# Altium footprint library Resistors_GP.PcbLib: 194 footprints (part 8 of 13)
Each footprint in its own frame and in the unit in brackets; x right, y up, seen from the top. Pads: shape width x height; smd on the part's side, far side on the other; paste and mask are expansions set on the pad; w line width, h text height; cw(c..) or ccw(c..) is an arc to the next point about the centre after c.
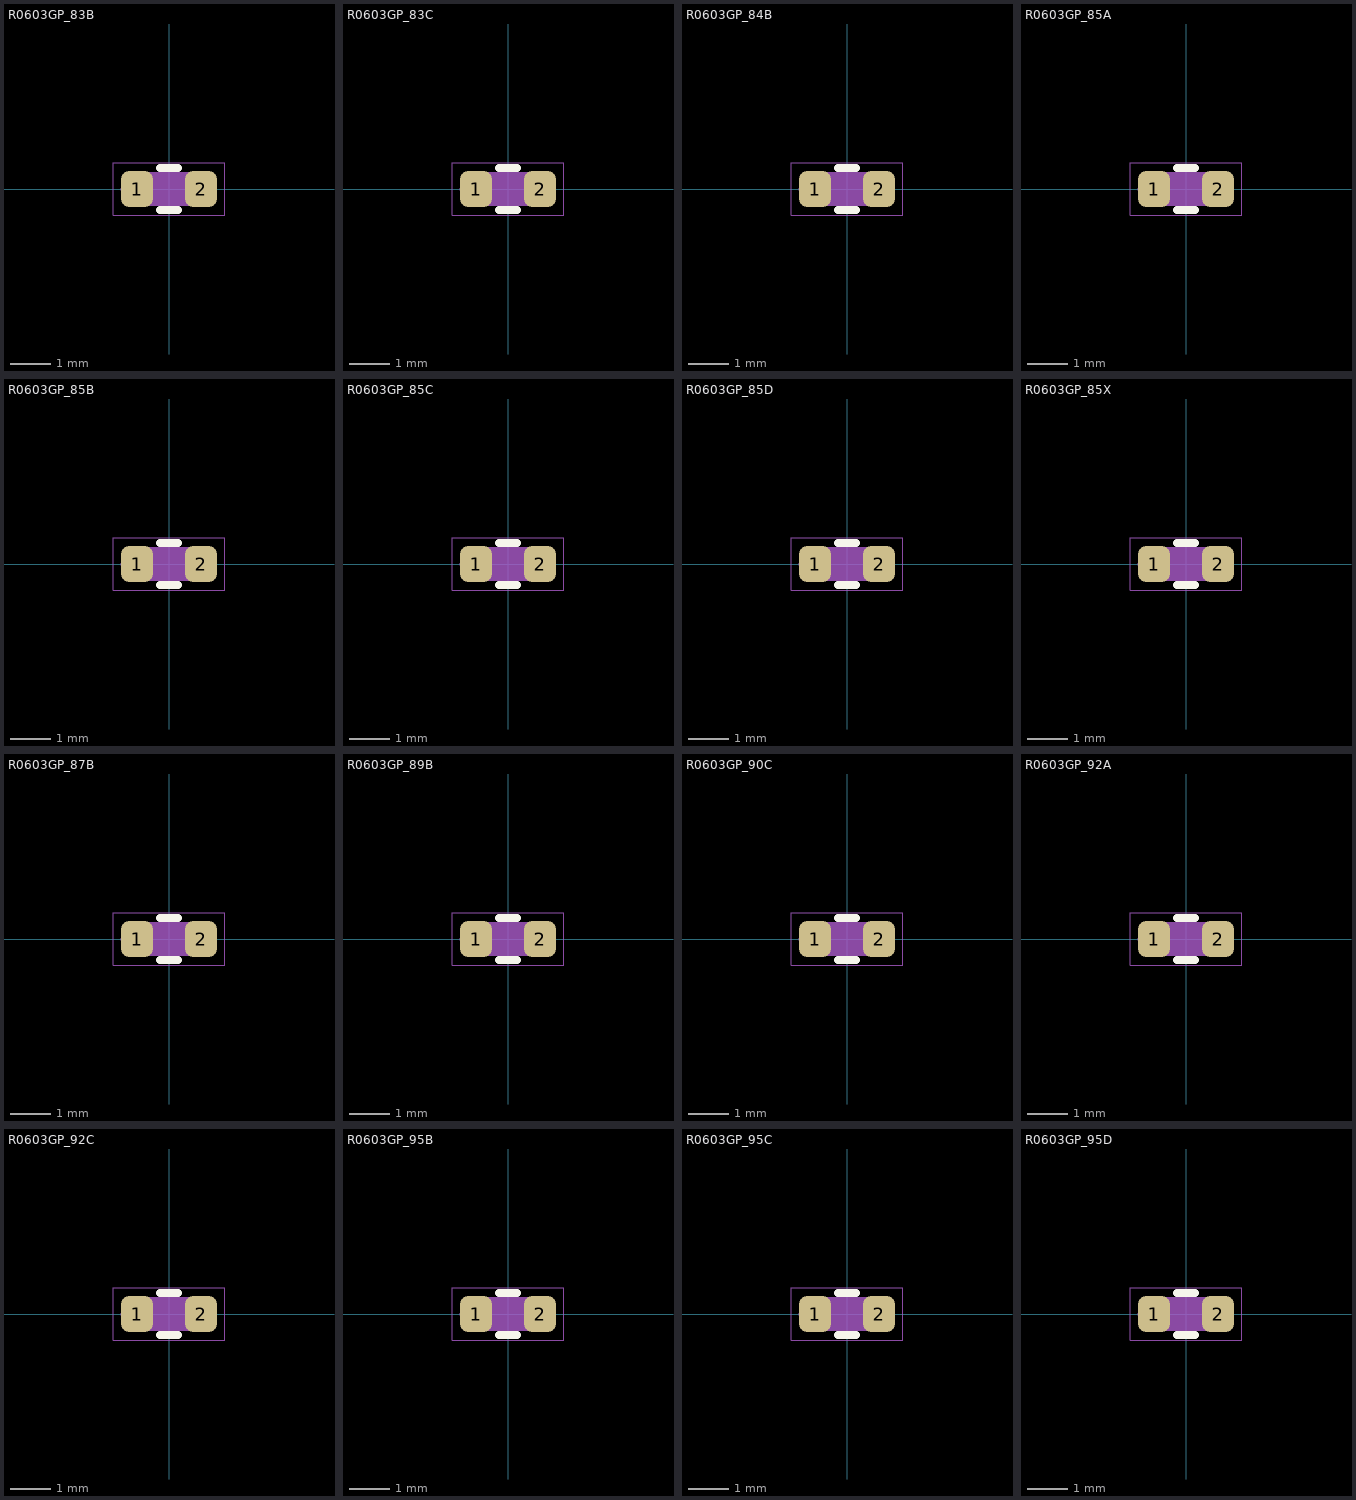
[diagram p7: the footprints below, top view; thin cyan lines are the x and y axes]

## R0603GP_83B [mm] "SMD060316X08MM"
height 0.45
pads (2):
  rrect50% 0.8x0.9 smd mask+0.05: 1(-0.8,0) 2(0.8,0)
Top Overlay:
  lines w0.2: -0.225,-0.525 0.225,-0.525 ; -0.225,0.525 0.225,0.525
Top Courtyard:
  lines w0.025: -1.4,-0.65 1.4,-0.65 1.4,0.65 -1.4,0.65 -1.4,-0.65
Top Assembly:
  lines w0.01: -1.19,-0.025 -1.19,0.025 ; 1.19,-0.025 1.19,0.025
  lines w0.05: -0.549,-0.395 0.549,-0.395 ; -0.549,0.395 0.549,0.395 ; -0.45,-0.395 -0.45,0.395 ; -0.4,-0.395 -0.4,0.395 ; -0.35,-0.395 -0.35,0.395 ; -0.3,-0.395 -0.3,0.395 ; -0.25,-0.395 -0.25,0.395 ; -0.2,-0.395 -0.2,0.395 ; -0.15,-0.395 -0.15,0.395 ; -0.1,-0.395 -0.1,0.395 ; -0.05,-0.395 -0.05,0.395 ; 0,-0.395 0,0.395 ; 0.05,-0.395 0.05,0.395 ; 0.1,-0.395 0.1,0.395 ; 0.15,-0.395 0.15,0.395 ; 0.2,-0.395 0.2,0.395 ; 0.25,-0.395 0.25,0.395 ; 0.3,-0.395 0.3,0.395 ; 0.35,-0.395 0.35,0.395 ; 0.4,-0.395 0.4,0.395 ; 0.45,-0.395 0.45,0.395 ; -0.55,-0.4 ccw(c-2.125,0) -0.55,0.4 ; -0.55,-0.4 -0.5,-0.4 -0.5,-0.395 -0.5,0.395 -0.5,0.4 -0.55,0.4 ; -0.55,-0.4 -0.8,-0.4 -0.8,0.4 -0.55,0.4 ; 0.55,-0.4 cw(c2.125,0) 0.55,0.4 ; 0.55,-0.4 0.5,-0.4 0.5,-0.395 0.5,0.395 0.5,0.4 0.55,0.4 ; 0.55,-0.4 0.8,-0.4 0.8,0.4 0.55,0.4
  text ".Designator" at -1.801,0.669 h0.8
3D body "R0603_BLACK_83B.x_t": height 0.45, standoff 0, extent -0.8,-0.4 0.8,0.4

## R0603GP_83C [mm] "SMD060316X08MM"
height 0.45
pads (2):
  rrect50% 0.8x0.9 smd mask+0.05: 1(-0.8,0) 2(0.8,0)
Top Overlay:
  lines w0.2: -0.225,-0.525 0.225,-0.525 ; -0.225,0.525 0.225,0.525
Top Courtyard:
  lines w0.025: -1.4,-0.65 -1.4,0.65 1.4,0.65 1.4,-0.65 -1.4,-0.65
Top Assembly:
  lines w0.01: -1.19,-0.025 -1.19,0.025 ; 1.19,-0.025 1.19,0.025
  lines w0.05: -0.549,-0.395 0.549,-0.395 ; -0.549,0.395 0.549,0.395 ; -0.45,-0.395 -0.45,0.395 ; -0.4,-0.395 -0.4,0.395 ; -0.35,-0.395 -0.35,0.395 ; -0.3,-0.395 -0.3,0.395 ; -0.25,-0.395 -0.25,0.395 ; -0.2,-0.395 -0.2,0.395 ; -0.15,-0.395 -0.15,0.395 ; -0.1,-0.395 -0.1,0.395 ; -0.05,-0.395 -0.05,0.395 ; 0,-0.395 0,0.395 ; 0.05,-0.395 0.05,0.395 ; 0.1,-0.395 0.1,0.395 ; 0.15,-0.395 0.15,0.395 ; 0.2,-0.395 0.2,0.395 ; 0.25,-0.395 0.25,0.395 ; 0.3,-0.395 0.3,0.395 ; 0.35,-0.395 0.35,0.395 ; 0.4,-0.395 0.4,0.395 ; 0.45,-0.395 0.45,0.395 ; -0.55,-0.4 ccw(c-2.125,0) -0.55,0.4 ; -0.55,-0.4 -0.5,-0.4 -0.5,-0.395 -0.5,0.395 -0.5,0.4 -0.55,0.4 ; -0.55,-0.4 -0.8,-0.4 -0.8,0.4 -0.55,0.4 ; 0.55,-0.4 cw(c2.125,0) 0.55,0.4 ; 0.55,-0.4 0.5,-0.4 0.5,-0.395 0.5,0.395 0.5,0.4 0.55,0.4 ; 0.55,-0.4 0.8,-0.4 0.8,0.4 0.55,0.4
  text ".Designator" at -1.801,0.669 h0.8
3D body "R0603_BLACK_83C.x_t": height 0.45, standoff 0, extent -0.8,-0.4 0.8,0.4

## R0603GP_84B [mm] "SMD060316X08MM"
height 0.45
pads (2):
  rrect50% 0.8x0.9 smd mask+0.05: 1(-0.8,0) 2(0.8,0)
Top Overlay:
  lines w0.2: -0.225,-0.525 0.225,-0.525 ; -0.225,0.525 0.225,0.525
Top Courtyard:
  lines w0.025: -1.4,-0.65 -1.4,0.65 1.4,0.65 1.4,-0.65 -1.4,-0.65
Top Assembly:
  lines w0.01: -1.19,-0.025 -1.19,0.025 ; 1.19,-0.025 1.19,0.025
  lines w0.05: -0.549,-0.395 0.549,-0.395 ; -0.549,0.395 0.549,0.395 ; -0.45,-0.395 -0.45,0.395 ; -0.4,-0.395 -0.4,0.395 ; -0.35,-0.395 -0.35,0.395 ; -0.3,-0.395 -0.3,0.395 ; -0.25,-0.395 -0.25,0.395 ; -0.2,-0.395 -0.2,0.395 ; -0.15,-0.395 -0.15,0.395 ; -0.1,-0.395 -0.1,0.395 ; -0.05,-0.395 -0.05,0.395 ; 0,-0.395 0,0.395 ; 0.05,-0.395 0.05,0.395 ; 0.1,-0.395 0.1,0.395 ; 0.15,-0.395 0.15,0.395 ; 0.2,-0.395 0.2,0.395 ; 0.25,-0.395 0.25,0.395 ; 0.3,-0.395 0.3,0.395 ; 0.35,-0.395 0.35,0.395 ; 0.4,-0.395 0.4,0.395 ; 0.45,-0.395 0.45,0.395 ; -0.55,-0.4 ccw(c-2.125,0) -0.55,0.4 ; -0.55,-0.4 -0.5,-0.4 -0.5,-0.395 -0.5,0.395 -0.5,0.4 -0.55,0.4 ; -0.55,-0.4 -0.8,-0.4 -0.8,0.4 -0.55,0.4 ; 0.55,-0.4 cw(c2.125,0) 0.55,0.4 ; 0.55,-0.4 0.5,-0.4 0.5,-0.395 0.5,0.395 0.5,0.4 0.55,0.4 ; 0.55,-0.4 0.8,-0.4 0.8,0.4 0.55,0.4
  text ".Designator" at -1.801,0.669 h0.8
3D body "R0603_BLACK_84B.x_t": height 0.45, standoff 0, extent -0.8,-0.4 0.8,0.4

## R0603GP_85A [mm] "SMD060316X08MM"
height 0.45
pads (2):
  rrect50% 0.8x0.9 smd mask+0.05: 1(-0.8,0) 2(0.8,0)
Top Overlay:
  lines w0.2: -0.225,-0.525 0.225,-0.525 ; -0.225,0.525 0.225,0.525
Top Courtyard:
  lines w0.025: -1.4,-0.65 -1.4,0.65 1.4,0.65 1.4,-0.65 -1.4,-0.65
Top Assembly:
  lines w0.01: -1.19,-0.025 -1.19,0.025 ; 1.19,-0.025 1.19,0.025
  lines w0.05: -0.549,-0.395 0.549,-0.395 ; -0.549,0.395 0.549,0.395 ; -0.45,-0.395 -0.45,0.395 ; -0.4,-0.395 -0.4,0.395 ; -0.35,-0.395 -0.35,0.395 ; -0.3,-0.395 -0.3,0.395 ; -0.25,-0.395 -0.25,0.395 ; -0.2,-0.395 -0.2,0.395 ; -0.15,-0.395 -0.15,0.395 ; -0.1,-0.395 -0.1,0.395 ; -0.05,-0.395 -0.05,0.395 ; 0,-0.395 0,0.395 ; 0.05,-0.395 0.05,0.395 ; 0.1,-0.395 0.1,0.395 ; 0.15,-0.395 0.15,0.395 ; 0.2,-0.395 0.2,0.395 ; 0.25,-0.395 0.25,0.395 ; 0.3,-0.395 0.3,0.395 ; 0.35,-0.395 0.35,0.395 ; 0.4,-0.395 0.4,0.395 ; 0.45,-0.395 0.45,0.395 ; -0.55,-0.4 ccw(c-2.125,0) -0.55,0.4 ; -0.55,-0.4 -0.8,-0.4 -0.8,0.4 -0.55,0.4 ; -0.55,-0.4 -0.5,-0.4 -0.5,-0.395 -0.5,0.395 -0.5,0.4 -0.55,0.4 ; 0.55,-0.4 cw(c2.125,0) 0.55,0.4 ; 0.55,-0.4 0.8,-0.4 0.8,0.4 0.55,0.4 ; 0.55,-0.4 0.5,-0.4 0.5,-0.395 0.5,0.395 0.5,0.4 0.55,0.4
  text ".Designator" at -1.801,0.669 h0.8
3D body "R0603_BLACK_85A.x_t": height 0.45, standoff 0, extent -0.8,-0.4 0.8,0.4

## R0603GP_85B [mm] "SMD060316X08MM"
height 0.45
pads (2):
  rrect50% 0.8x0.9 smd mask+0.05: 1(-0.8,0) 2(0.8,0)
Top Overlay:
  lines w0.2: -0.225,-0.525 0.225,-0.525 ; -0.225,0.525 0.225,0.525
Top Courtyard:
  lines w0.025: -1.4,-0.65 1.4,-0.65 1.4,0.65 -1.4,0.65 -1.4,-0.65
Top Assembly:
  lines w0.01: -1.19,-0.025 -1.19,0.025 ; 1.19,-0.025 1.19,0.025
  lines w0.05: -0.549,-0.395 0.549,-0.395 ; -0.549,0.395 0.549,0.395 ; -0.45,-0.395 -0.45,0.395 ; -0.4,-0.395 -0.4,0.395 ; -0.35,-0.395 -0.35,0.395 ; -0.3,-0.395 -0.3,0.395 ; -0.25,-0.395 -0.25,0.395 ; -0.2,-0.395 -0.2,0.395 ; -0.15,-0.395 -0.15,0.395 ; -0.1,-0.395 -0.1,0.395 ; -0.05,-0.395 -0.05,0.395 ; 0,-0.395 0,0.395 ; 0.05,-0.395 0.05,0.395 ; 0.1,-0.395 0.1,0.395 ; 0.15,-0.395 0.15,0.395 ; 0.2,-0.395 0.2,0.395 ; 0.25,-0.395 0.25,0.395 ; 0.3,-0.395 0.3,0.395 ; 0.35,-0.395 0.35,0.395 ; 0.4,-0.395 0.4,0.395 ; 0.45,-0.395 0.45,0.395 ; -0.55,-0.4 ccw(c-2.125,0) -0.55,0.4 ; -0.55,-0.4 -0.8,-0.4 -0.8,0.4 -0.55,0.4 ; -0.55,-0.4 -0.5,-0.4 -0.5,-0.395 -0.5,0.395 -0.5,0.4 -0.55,0.4 ; 0.55,-0.4 cw(c2.125,0) 0.55,0.4 ; 0.55,-0.4 0.8,-0.4 0.8,0.4 0.55,0.4 ; 0.55,-0.4 0.5,-0.4 0.5,-0.395 0.5,0.395 0.5,0.4 0.55,0.4
  text ".Designator" at -1.801,0.669 h0.8
3D body "R0603_BLACK_85B.x_t": height 0.45, standoff 0, extent -0.8,-0.4 0.8,0.4

## R0603GP_85C [mm] "SMD060316X08MM"
height 0.45
pads (2):
  rrect50% 0.8x0.9 smd mask+0.05: 1(-0.8,0) 2(0.8,0)
Top Overlay:
  lines w0.2: -0.225,-0.525 0.225,-0.525 ; -0.225,0.525 0.225,0.525
Top Courtyard:
  lines w0.025: -1.4,-0.65 1.4,-0.65 1.4,0.65 -1.4,0.65 -1.4,-0.65
Top Assembly:
  lines w0.01: -1.19,-0.025 -1.19,0.025 ; 1.19,-0.025 1.19,0.025
  lines w0.05: -0.549,-0.395 0.549,-0.395 ; -0.549,0.395 0.549,0.395 ; -0.45,-0.395 -0.45,0.395 ; -0.4,-0.395 -0.4,0.395 ; -0.35,-0.395 -0.35,0.395 ; -0.3,-0.395 -0.3,0.395 ; -0.25,-0.395 -0.25,0.395 ; -0.2,-0.395 -0.2,0.395 ; -0.15,-0.395 -0.15,0.395 ; -0.1,-0.395 -0.1,0.395 ; -0.05,-0.395 -0.05,0.395 ; 0,-0.395 0,0.395 ; 0.05,-0.395 0.05,0.395 ; 0.1,-0.395 0.1,0.395 ; 0.15,-0.395 0.15,0.395 ; 0.2,-0.395 0.2,0.395 ; 0.25,-0.395 0.25,0.395 ; 0.3,-0.395 0.3,0.395 ; 0.35,-0.395 0.35,0.395 ; 0.4,-0.395 0.4,0.395 ; 0.45,-0.395 0.45,0.395 ; -0.55,-0.4 ccw(c-2.125,0) -0.55,0.4 ; -0.55,-0.4 -0.5,-0.4 -0.5,-0.395 -0.5,0.395 -0.5,0.4 -0.55,0.4 ; -0.55,-0.4 -0.8,-0.4 -0.8,0.4 -0.55,0.4 ; 0.55,-0.4 cw(c2.125,0) 0.55,0.4 ; 0.55,-0.4 0.5,-0.4 0.5,-0.395 0.5,0.395 0.5,0.4 0.55,0.4 ; 0.55,-0.4 0.8,-0.4 0.8,0.4 0.55,0.4
  text ".Designator" at -1.801,0.669 h0.8
3D body "R0603_BLACK_85C.x_t": height 0.45, standoff 0, extent -0.8,-0.4 0.8,0.4

## R0603GP_85D [mm] "SMD060316X08MM"
height 0.45
pads (2):
  rrect50% 0.8x0.9 smd mask+0.05: 1(-0.8,0) 2(0.8,0)
Top Overlay:
  lines w0.2: -0.225,-0.525 0.225,-0.525 ; -0.225,0.525 0.225,0.525
Top Courtyard:
  lines w0.025: -1.4,-0.65 -1.4,0.65 1.4,0.65 1.4,-0.65 -1.4,-0.65
Top Assembly:
  lines w0.01: -1.19,-0.025 -1.19,0.025 ; 1.19,-0.025 1.19,0.025
  lines w0.05: -0.549,-0.395 0.549,-0.395 ; -0.549,0.395 0.549,0.395 ; -0.45,-0.395 -0.45,0.395 ; -0.4,-0.395 -0.4,0.395 ; -0.35,-0.395 -0.35,0.395 ; -0.3,-0.395 -0.3,0.395 ; -0.25,-0.395 -0.25,0.395 ; -0.2,-0.395 -0.2,0.395 ; -0.15,-0.395 -0.15,0.395 ; -0.1,-0.395 -0.1,0.395 ; -0.05,-0.395 -0.05,0.395 ; 0,-0.395 0,0.395 ; 0.05,-0.395 0.05,0.395 ; 0.1,-0.395 0.1,0.395 ; 0.15,-0.395 0.15,0.395 ; 0.2,-0.395 0.2,0.395 ; 0.25,-0.395 0.25,0.395 ; 0.3,-0.395 0.3,0.395 ; 0.35,-0.395 0.35,0.395 ; 0.4,-0.395 0.4,0.395 ; 0.45,-0.395 0.45,0.395 ; -0.55,-0.4 ccw(c-2.125,0) -0.55,0.4 ; -0.55,-0.4 -0.8,-0.4 -0.8,0.4 -0.55,0.4 ; -0.55,-0.4 -0.5,-0.4 -0.5,-0.395 -0.5,0.395 -0.5,0.4 -0.55,0.4 ; 0.55,-0.4 cw(c2.125,0) 0.55,0.4 ; 0.55,-0.4 0.8,-0.4 0.8,0.4 0.55,0.4 ; 0.55,-0.4 0.5,-0.4 0.5,-0.395 0.5,0.395 0.5,0.4 0.55,0.4
  text ".Designator" at -1.801,0.669 h0.8
3D body "R0603_BLACK_85D.x_t": height 0.45, standoff 0, extent -0.8,-0.4 0.8,0.4

## R0603GP_85X [mm] "SMD060316X08MM"
height 0.45
pads (2):
  rrect50% 0.8x0.9 smd mask+0.05: 1(-0.8,0) 2(0.8,0)
Top Overlay:
  lines w0.2: -0.225,-0.525 0.225,-0.525 ; -0.225,0.525 0.225,0.525
Top Courtyard:
  lines w0.025: -1.4,-0.65 1.4,-0.65 1.4,0.65 -1.4,0.65 -1.4,-0.65
Top Assembly:
  lines w0.01: -1.19,-0.025 -1.19,0.025 ; 1.19,-0.025 1.19,0.025
  lines w0.05: -0.549,-0.395 0.549,-0.395 ; -0.549,0.395 0.549,0.395 ; -0.45,-0.395 -0.45,0.395 ; -0.4,-0.395 -0.4,0.395 ; -0.35,-0.395 -0.35,0.395 ; -0.3,-0.395 -0.3,0.395 ; -0.25,-0.395 -0.25,0.395 ; -0.2,-0.395 -0.2,0.395 ; -0.15,-0.395 -0.15,0.395 ; -0.1,-0.395 -0.1,0.395 ; -0.05,-0.395 -0.05,0.395 ; 0,-0.395 0,0.395 ; 0.05,-0.395 0.05,0.395 ; 0.1,-0.395 0.1,0.395 ; 0.15,-0.395 0.15,0.395 ; 0.2,-0.395 0.2,0.395 ; 0.25,-0.395 0.25,0.395 ; 0.3,-0.395 0.3,0.395 ; 0.35,-0.395 0.35,0.395 ; 0.4,-0.395 0.4,0.395 ; 0.45,-0.395 0.45,0.395 ; -0.55,-0.4 ccw(c-2.125,0) -0.55,0.4 ; -0.55,-0.4 -0.8,-0.4 -0.8,0.4 -0.55,0.4 ; -0.55,-0.4 -0.5,-0.4 -0.5,-0.395 -0.5,0.395 -0.5,0.4 -0.55,0.4 ; 0.55,-0.4 cw(c2.125,0) 0.55,0.4 ; 0.55,-0.4 0.8,-0.4 0.8,0.4 0.55,0.4 ; 0.55,-0.4 0.5,-0.4 0.5,-0.395 0.5,0.395 0.5,0.4 0.55,0.4
  text ".Designator" at -1.801,0.669 h0.8
3D body "R0603_BLACK_85X.x_t": height 0.45, standoff 0, extent -0.8,-0.4 0.8,0.4

## R0603GP_87B [mm] "SMD060316X08MM"
height 0.45
pads (2):
  rrect50% 0.8x0.9 smd mask+0.05: 1(-0.8,0) 2(0.8,0)
Top Overlay:
  lines w0.2: -0.225,-0.525 0.225,-0.525 ; -0.225,0.525 0.225,0.525
Top Courtyard:
  lines w0.025: -1.4,-0.65 1.4,-0.65 1.4,0.65 -1.4,0.65 -1.4,-0.65
Top Assembly:
  lines w0.01: -1.19,-0.025 -1.19,0.025 ; 1.19,-0.025 1.19,0.025
  lines w0.05: -0.549,-0.395 0.549,-0.395 ; -0.549,0.395 0.549,0.395 ; -0.45,-0.395 -0.45,0.395 ; -0.4,-0.395 -0.4,0.395 ; -0.35,-0.395 -0.35,0.395 ; -0.3,-0.395 -0.3,0.395 ; -0.25,-0.395 -0.25,0.395 ; -0.2,-0.395 -0.2,0.395 ; -0.15,-0.395 -0.15,0.395 ; -0.1,-0.395 -0.1,0.395 ; -0.05,-0.395 -0.05,0.395 ; 0,-0.395 0,0.395 ; 0.05,-0.395 0.05,0.395 ; 0.1,-0.395 0.1,0.395 ; 0.15,-0.395 0.15,0.395 ; 0.2,-0.395 0.2,0.395 ; 0.25,-0.395 0.25,0.395 ; 0.3,-0.395 0.3,0.395 ; 0.35,-0.395 0.35,0.395 ; 0.4,-0.395 0.4,0.395 ; 0.45,-0.395 0.45,0.395 ; -0.55,-0.4 ccw(c-2.125,0) -0.55,0.4 ; -0.55,-0.4 -0.8,-0.4 -0.8,0.4 -0.55,0.4 ; -0.55,-0.4 -0.5,-0.4 -0.5,-0.395 -0.5,0.395 -0.5,0.4 -0.55,0.4 ; 0.55,-0.4 cw(c2.125,0) 0.55,0.4 ; 0.55,-0.4 0.8,-0.4 0.8,0.4 0.55,0.4 ; 0.55,-0.4 0.5,-0.4 0.5,-0.395 0.5,0.395 0.5,0.4 0.55,0.4
  text ".Designator" at -1.801,0.669 h0.8
3D body "R0603_BLACK_87B.x_t": height 0.45, standoff 0, extent -0.8,-0.4 0.8,0.4

## R0603GP_89B [mm] "SMD060316X08MM"
height 0.45
pads (2):
  rrect50% 0.8x0.9 smd mask+0.05: 1(-0.8,0) 2(0.8,0)
Top Overlay:
  lines w0.2: -0.225,-0.525 0.225,-0.525 ; -0.225,0.525 0.225,0.525
Top Courtyard:
  lines w0.025: -1.4,-0.65 1.4,-0.65 1.4,0.65 -1.4,0.65 -1.4,-0.65
Top Assembly:
  lines w0.01: -1.19,-0.025 -1.19,0.025 ; 1.19,-0.025 1.19,0.025
  lines w0.05: -0.549,-0.395 0.549,-0.395 ; -0.549,0.395 0.549,0.395 ; -0.45,-0.395 -0.45,0.395 ; -0.4,-0.395 -0.4,0.395 ; -0.35,-0.395 -0.35,0.395 ; -0.3,-0.395 -0.3,0.395 ; -0.25,-0.395 -0.25,0.395 ; -0.2,-0.395 -0.2,0.395 ; -0.15,-0.395 -0.15,0.395 ; -0.1,-0.395 -0.1,0.395 ; -0.05,-0.395 -0.05,0.395 ; 0,-0.395 0,0.395 ; 0.05,-0.395 0.05,0.395 ; 0.1,-0.395 0.1,0.395 ; 0.15,-0.395 0.15,0.395 ; 0.2,-0.395 0.2,0.395 ; 0.25,-0.395 0.25,0.395 ; 0.3,-0.395 0.3,0.395 ; 0.35,-0.395 0.35,0.395 ; 0.4,-0.395 0.4,0.395 ; 0.45,-0.395 0.45,0.395 ; -0.55,-0.4 ccw(c-2.125,0) -0.55,0.4 ; -0.55,-0.4 -0.8,-0.4 -0.8,0.4 -0.55,0.4 ; -0.55,-0.4 -0.5,-0.4 -0.5,-0.395 -0.5,0.395 -0.5,0.4 -0.55,0.4 ; 0.55,-0.4 cw(c2.125,0) 0.55,0.4 ; 0.55,-0.4 0.8,-0.4 0.8,0.4 0.55,0.4 ; 0.55,-0.4 0.5,-0.4 0.5,-0.395 0.5,0.395 0.5,0.4 0.55,0.4
  text ".Designator" at -1.801,0.669 h0.8
3D body "R0603_BLACK_89B.x_t": height 0.45, standoff 0, extent -0.8,-0.4 0.8,0.4

## R0603GP_90C [mm] "SMD060316X08MM"
height 0.45
pads (2):
  rrect50% 0.8x0.9 smd mask+0.05: 1(-0.8,0) 2(0.8,0)
Top Overlay:
  lines w0.2: -0.225,-0.525 0.225,-0.525 ; -0.225,0.525 0.225,0.525
Top Courtyard:
  lines w0.025: -1.4,-0.65 -1.4,0.65 1.4,0.65 1.4,-0.65 -1.4,-0.65
Top Assembly:
  lines w0.01: -1.19,-0.025 -1.19,0.025 ; 1.19,-0.025 1.19,0.025
  lines w0.05: -0.549,-0.395 0.549,-0.395 ; -0.549,0.395 0.549,0.395 ; -0.45,-0.395 -0.45,0.395 ; -0.4,-0.395 -0.4,0.395 ; -0.35,-0.395 -0.35,0.395 ; -0.3,-0.395 -0.3,0.395 ; -0.25,-0.395 -0.25,0.395 ; -0.2,-0.395 -0.2,0.395 ; -0.15,-0.395 -0.15,0.395 ; -0.1,-0.395 -0.1,0.395 ; -0.05,-0.395 -0.05,0.395 ; 0,-0.395 0,0.395 ; 0.05,-0.395 0.05,0.395 ; 0.1,-0.395 0.1,0.395 ; 0.15,-0.395 0.15,0.395 ; 0.2,-0.395 0.2,0.395 ; 0.25,-0.395 0.25,0.395 ; 0.3,-0.395 0.3,0.395 ; 0.35,-0.395 0.35,0.395 ; 0.4,-0.395 0.4,0.395 ; 0.45,-0.395 0.45,0.395 ; -0.55,-0.4 ccw(c-2.125,0) -0.55,0.4 ; -0.55,-0.4 -0.8,-0.4 -0.8,0.4 -0.55,0.4 ; -0.55,-0.4 -0.5,-0.4 -0.5,-0.395 -0.5,0.395 -0.5,0.4 -0.55,0.4 ; 0.55,-0.4 cw(c2.125,0) 0.55,0.4 ; 0.55,-0.4 0.8,-0.4 0.8,0.4 0.55,0.4 ; 0.55,-0.4 0.5,-0.4 0.5,-0.395 0.5,0.395 0.5,0.4 0.55,0.4
  text ".Designator" at -1.801,0.669 h0.8
3D body "R0603_BLACK_90C.x_t": height 0.45, standoff 0, extent -0.8,-0.4 0.8,0.4

## R0603GP_92A [mm] "SMD060316X08MM"
height 0.45
pads (2):
  rrect50% 0.8x0.9 smd mask+0.05: 1(-0.8,0) 2(0.8,0)
Top Overlay:
  lines w0.2: -0.225,-0.525 0.225,-0.525 ; -0.225,0.525 0.225,0.525
Top Courtyard:
  lines w0.025: -1.4,-0.65 1.4,-0.65 1.4,0.65 -1.4,0.65 -1.4,-0.65
Top Assembly:
  lines w0.01: -1.19,-0.025 -1.19,0.025 ; 1.19,-0.025 1.19,0.025
  lines w0.05: -0.549,-0.395 0.549,-0.395 ; -0.549,0.395 0.549,0.395 ; -0.45,-0.395 -0.45,0.395 ; -0.4,-0.395 -0.4,0.395 ; -0.35,-0.395 -0.35,0.395 ; -0.3,-0.395 -0.3,0.395 ; -0.25,-0.395 -0.25,0.395 ; -0.2,-0.395 -0.2,0.395 ; -0.15,-0.395 -0.15,0.395 ; -0.1,-0.395 -0.1,0.395 ; -0.05,-0.395 -0.05,0.395 ; 0,-0.395 0,0.395 ; 0.05,-0.395 0.05,0.395 ; 0.1,-0.395 0.1,0.395 ; 0.15,-0.395 0.15,0.395 ; 0.2,-0.395 0.2,0.395 ; 0.25,-0.395 0.25,0.395 ; 0.3,-0.395 0.3,0.395 ; 0.35,-0.395 0.35,0.395 ; 0.4,-0.395 0.4,0.395 ; 0.45,-0.395 0.45,0.395 ; -0.55,-0.4 ccw(c-2.125,0) -0.55,0.4 ; -0.55,-0.4 -0.8,-0.4 -0.8,0.4 -0.55,0.4 ; -0.55,-0.4 -0.5,-0.4 -0.5,-0.395 -0.5,0.395 -0.5,0.4 -0.55,0.4 ; 0.55,-0.4 cw(c2.125,0) 0.55,0.4 ; 0.55,-0.4 0.8,-0.4 0.8,0.4 0.55,0.4 ; 0.55,-0.4 0.5,-0.4 0.5,-0.395 0.5,0.395 0.5,0.4 0.55,0.4
  text ".Designator" at -1.801,0.669 h0.8
3D body "R0603_BLACK_92A.x_t": height 0.45, standoff 0, extent -0.8,-0.4 0.8,0.4

## R0603GP_92C [mm] "SMD060316X08MM"
height 0.45
pads (2):
  rrect50% 0.8x0.9 smd mask+0.05: 1(-0.8,0) 2(0.8,0)
Top Overlay:
  lines w0.2: -0.225,-0.525 0.225,-0.525 ; -0.225,0.525 0.225,0.525
Top Courtyard:
  lines w0.025: -1.4,-0.65 -1.4,0.65 1.4,0.65 1.4,-0.65 -1.4,-0.65
Top Assembly:
  lines w0.01: -1.19,-0.025 -1.19,0.025 ; 1.19,-0.025 1.19,0.025
  lines w0.05: -0.549,-0.395 0.549,-0.395 ; -0.549,0.395 0.549,0.395 ; -0.45,-0.395 -0.45,0.395 ; -0.4,-0.395 -0.4,0.395 ; -0.35,-0.395 -0.35,0.395 ; -0.3,-0.395 -0.3,0.395 ; -0.25,-0.395 -0.25,0.395 ; -0.2,-0.395 -0.2,0.395 ; -0.15,-0.395 -0.15,0.395 ; -0.1,-0.395 -0.1,0.395 ; -0.05,-0.395 -0.05,0.395 ; 0,-0.395 0,0.395 ; 0.05,-0.395 0.05,0.395 ; 0.1,-0.395 0.1,0.395 ; 0.15,-0.395 0.15,0.395 ; 0.2,-0.395 0.2,0.395 ; 0.25,-0.395 0.25,0.395 ; 0.3,-0.395 0.3,0.395 ; 0.35,-0.395 0.35,0.395 ; 0.4,-0.395 0.4,0.395 ; 0.45,-0.395 0.45,0.395 ; -0.55,-0.4 ccw(c-2.125,0) -0.55,0.4 ; -0.55,-0.4 -0.5,-0.4 -0.5,-0.395 -0.5,0.395 -0.5,0.4 -0.55,0.4 ; -0.55,-0.4 -0.8,-0.4 -0.8,0.4 -0.55,0.4 ; 0.55,-0.4 cw(c2.125,0) 0.55,0.4 ; 0.55,-0.4 0.5,-0.4 0.5,-0.395 0.5,0.395 0.5,0.4 0.55,0.4 ; 0.55,-0.4 0.8,-0.4 0.8,0.4 0.55,0.4
  text ".Designator" at -1.801,0.669 h0.8
3D body "R0603_BLACK_92C.x_t": height 0.45, standoff 0, extent -0.8,-0.4 0.8,0.4

## R0603GP_95B [mm] "SMD060316X08MM"
height 0.45
pads (2):
  rrect50% 0.8x0.9 smd mask+0.05: 1(-0.8,0) 2(0.8,0)
Top Overlay:
  lines w0.2: -0.225,-0.525 0.225,-0.525 ; -0.225,0.525 0.225,0.525
Top Courtyard:
  lines w0.025: -1.4,-0.65 -1.4,0.65 1.4,0.65 1.4,-0.65 -1.4,-0.65
Top Assembly:
  lines w0.01: -1.19,-0.025 -1.19,0.025 ; 1.19,-0.025 1.19,0.025
  lines w0.05: -0.549,-0.395 0.549,-0.395 ; -0.549,0.395 0.549,0.395 ; -0.45,-0.395 -0.45,0.395 ; -0.4,-0.395 -0.4,0.395 ; -0.35,-0.395 -0.35,0.395 ; -0.3,-0.395 -0.3,0.395 ; -0.25,-0.395 -0.25,0.395 ; -0.2,-0.395 -0.2,0.395 ; -0.15,-0.395 -0.15,0.395 ; -0.1,-0.395 -0.1,0.395 ; -0.05,-0.395 -0.05,0.395 ; 0,-0.395 0,0.395 ; 0.05,-0.395 0.05,0.395 ; 0.1,-0.395 0.1,0.395 ; 0.15,-0.395 0.15,0.395 ; 0.2,-0.395 0.2,0.395 ; 0.25,-0.395 0.25,0.395 ; 0.3,-0.395 0.3,0.395 ; 0.35,-0.395 0.35,0.395 ; 0.4,-0.395 0.4,0.395 ; 0.45,-0.395 0.45,0.395 ; -0.55,-0.4 ccw(c-2.125,0) -0.55,0.4 ; -0.55,-0.4 -0.5,-0.4 -0.5,-0.395 -0.5,0.395 -0.5,0.4 -0.55,0.4 ; -0.55,-0.4 -0.8,-0.4 -0.8,0.4 -0.55,0.4 ; 0.55,-0.4 cw(c2.125,0) 0.55,0.4 ; 0.55,-0.4 0.5,-0.4 0.5,-0.395 0.5,0.395 0.5,0.4 0.55,0.4 ; 0.55,-0.4 0.8,-0.4 0.8,0.4 0.55,0.4
  text ".Designator" at -1.801,0.669 h0.8
3D body "R0603_BLACK_95B.x_t": height 0.45, standoff 0, extent -0.8,-0.4 0.8,0.4

## R0603GP_95C [mm] "SMD060316X08MM"
height 0.45
pads (2):
  rrect50% 0.8x0.9 smd mask+0.05: 1(-0.8,0) 2(0.8,0)
Top Overlay:
  lines w0.2: -0.225,-0.525 0.225,-0.525 ; -0.225,0.525 0.225,0.525
Top Courtyard:
  lines w0.025: -1.4,-0.65 -1.4,0.65 1.4,0.65 1.4,-0.65 -1.4,-0.65
Top Assembly:
  lines w0.01: -1.19,-0.025 -1.19,0.025 ; 1.19,-0.025 1.19,0.025
  lines w0.05: -0.549,-0.395 0.549,-0.395 ; -0.549,0.395 0.549,0.395 ; -0.45,-0.395 -0.45,0.395 ; -0.4,-0.395 -0.4,0.395 ; -0.35,-0.395 -0.35,0.395 ; -0.3,-0.395 -0.3,0.395 ; -0.25,-0.395 -0.25,0.395 ; -0.2,-0.395 -0.2,0.395 ; -0.15,-0.395 -0.15,0.395 ; -0.1,-0.395 -0.1,0.395 ; -0.05,-0.395 -0.05,0.395 ; 0,-0.395 0,0.395 ; 0.05,-0.395 0.05,0.395 ; 0.1,-0.395 0.1,0.395 ; 0.15,-0.395 0.15,0.395 ; 0.2,-0.395 0.2,0.395 ; 0.25,-0.395 0.25,0.395 ; 0.3,-0.395 0.3,0.395 ; 0.35,-0.395 0.35,0.395 ; 0.4,-0.395 0.4,0.395 ; 0.45,-0.395 0.45,0.395 ; -0.55,-0.4 ccw(c-2.125,0) -0.55,0.4 ; -0.55,-0.4 -0.5,-0.4 -0.5,-0.395 -0.5,0.395 -0.5,0.4 -0.55,0.4 ; -0.55,-0.4 -0.8,-0.4 -0.8,0.4 -0.55,0.4 ; 0.55,-0.4 cw(c2.125,0) 0.55,0.4 ; 0.55,-0.4 0.5,-0.4 0.5,-0.395 0.5,0.395 0.5,0.4 0.55,0.4 ; 0.55,-0.4 0.8,-0.4 0.8,0.4 0.55,0.4
  text ".Designator" at -1.801,0.669 h0.8
3D body "R0603_BLACK_95C.x_t": height 0.45, standoff 0, extent -0.8,-0.4 0.8,0.4

## R0603GP_95D [mm] "SMD060316X08MM"
height 0.45
pads (2):
  rrect50% 0.8x0.9 smd mask+0.05: 1(-0.8,0) 2(0.8,0)
Top Overlay:
  lines w0.2: -0.225,-0.525 0.225,-0.525 ; -0.225,0.525 0.225,0.525
Top Courtyard:
  lines w0.025: -1.4,-0.65 -1.4,0.65 1.4,0.65 1.4,-0.65 -1.4,-0.65
Top Assembly:
  lines w0.01: -1.19,-0.025 -1.19,0.025 ; 1.19,-0.025 1.19,0.025
  lines w0.05: -0.549,-0.395 0.549,-0.395 ; -0.549,0.395 0.549,0.395 ; -0.45,-0.395 -0.45,0.395 ; -0.4,-0.395 -0.4,0.395 ; -0.35,-0.395 -0.35,0.395 ; -0.3,-0.395 -0.3,0.395 ; -0.25,-0.395 -0.25,0.395 ; -0.2,-0.395 -0.2,0.395 ; -0.15,-0.395 -0.15,0.395 ; -0.1,-0.395 -0.1,0.395 ; -0.05,-0.395 -0.05,0.395 ; 0,-0.395 0,0.395 ; 0.05,-0.395 0.05,0.395 ; 0.1,-0.395 0.1,0.395 ; 0.15,-0.395 0.15,0.395 ; 0.2,-0.395 0.2,0.395 ; 0.25,-0.395 0.25,0.395 ; 0.3,-0.395 0.3,0.395 ; 0.35,-0.395 0.35,0.395 ; 0.4,-0.395 0.4,0.395 ; 0.45,-0.395 0.45,0.395 ; -0.55,-0.4 ccw(c-2.125,0) -0.55,0.4 ; -0.55,-0.4 -0.5,-0.4 -0.5,-0.395 -0.5,0.395 -0.5,0.4 -0.55,0.4 ; -0.55,-0.4 -0.8,-0.4 -0.8,0.4 -0.55,0.4 ; 0.55,-0.4 cw(c2.125,0) 0.55,0.4 ; 0.55,-0.4 0.5,-0.4 0.5,-0.395 0.5,0.395 0.5,0.4 0.55,0.4 ; 0.55,-0.4 0.8,-0.4 0.8,0.4 0.55,0.4
  text ".Designator" at -1.801,0.669 h0.8
3D body "R0603_BLACK_95D.x_t": height 0.45, standoff 0, extent -0.8,-0.4 0.8,0.4